# EAGLE library part SD (library f-connector-interface)
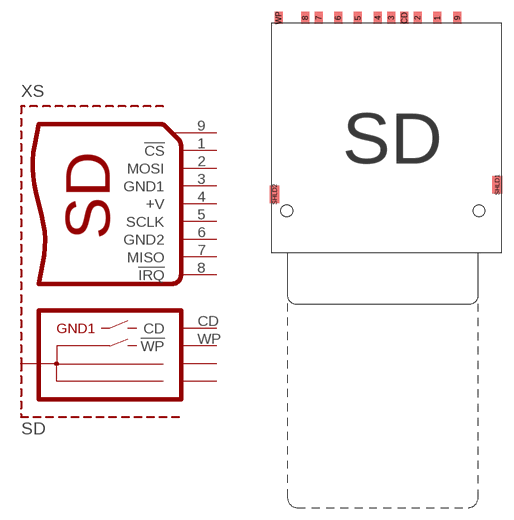
[diagram p3: symbol with the pads of FCI-10067847; footprint FCI-10067847]

Designator prefix XS

## SD-FCI-10067847  [FCI-10067847]
1  !CS
2  MOSI
3  GND1
4  +V
5  SCLK
6  GND2
7  MISO
8  !IRQ
9  P$1
CD  CD
SHLD1  SHLD1
SHLD2  SHLD2
WP  !WP

## Footprint FCI-10067847 (pad centres in mm)
smd 1 x 1.5: 1 6.875,0.6; 2 4.375,0.6; 3 1.075,0.6; 4 -0.625,0.6; 5 -3.125,0.6; 6 -5.625,0.6; 7 -8.05,0.6; 8 -9.75,0.6; 9 9.375,0.6; CD 2.725,0.6; WP -13.1,0.6
smd 1.2 x 2.2: SHLD1 14.4,-20.4; SHLD2 -13.6,-21.6
hole 1.5 at 12.1,-23.7
hole 1.5 at -12.1,-23.7